# Altium integrated library CDLL5819.IntLib: 2 symbols
Pins are listed as number, name and electrical type; pins without a type are passive.

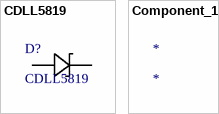
[diagram p0: symbols CDLL5819 to Component_1]

## CDLL5819
designator D?
No Description Available; Mfr_Name: Microsemi; Type: DEV; Copyright: Copyright (C) 2022 Ultra Librarian. All rights reserved.; Manufacturer_Part_Number: CDLL5819; Digi-Key_Part_Number_1: CDLL5819-ND; RefDes: RefDes
footprint DO-213AB_MIS
pins: 1 11, 2 12

## Component_1
designator *